# Altium schematic symbol library UM-64NNP.SchLib: 9 symbols
Pins are listed as number, name and electrical type; pins without a type are passive.

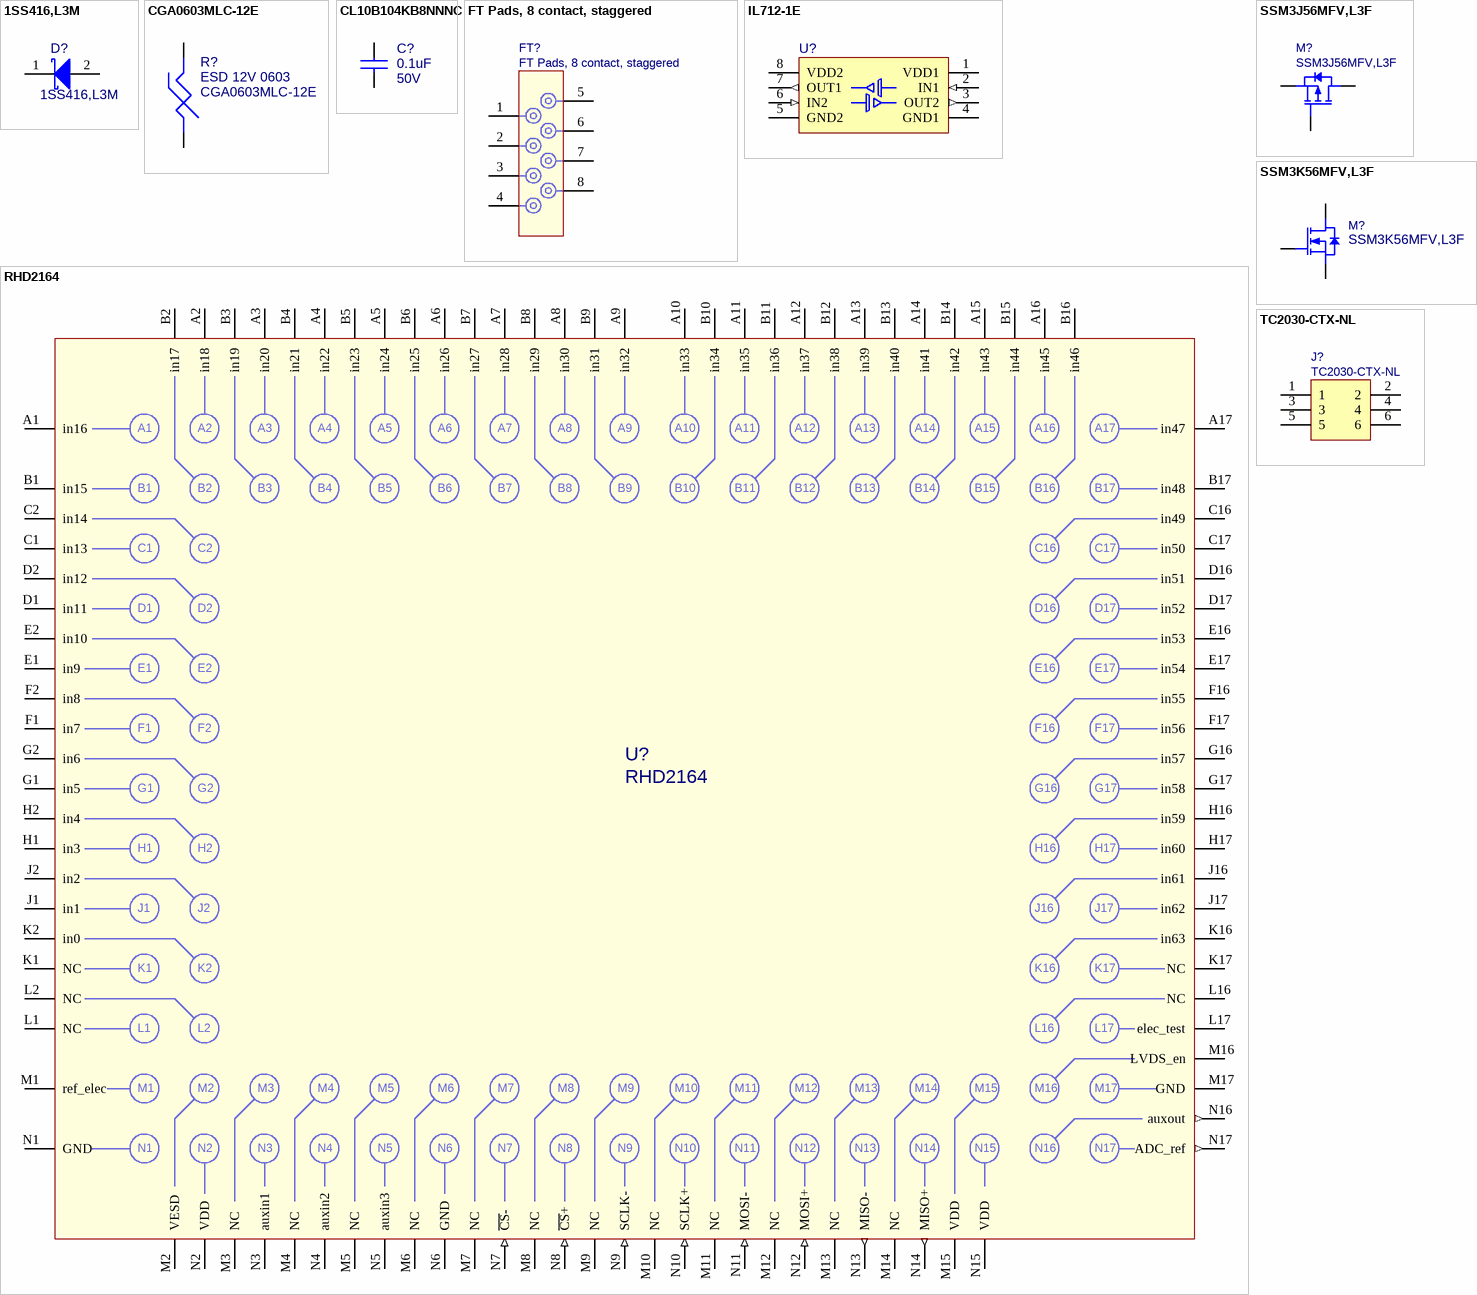
[diagram p0: symbols 1SS416,L3M to TC2030-CTX-NL]

## 1SS416,L3M
designator D?
Diode, Schottky, 30V, 100mA, SOD-923; Manufacturer: Toshiba; Category: Diode; Rating: 100mA; Supplier 1: Mouser; Supplier Part Number 1: 757-1SS416L3M; Package: SOD-923; Manufacturer PN: 1SS416,L3M
footprint TOSHIBA_SOD-923 (SODFL, 2-Leads, Body 0.60x1.00mm, IPC High Density)
pins: 1 C, 2 A

## CGA0603MLC-12E
designator R?, comment ESD 12V 0603  Manufacturer PN: CGA0603MLC-12E
ESD Suppressor, 12V, 0603; Manufacturer: Bourns; Package: 0603; Supplier 1: Mouser; Supplier Part Number 1: 652-CGA0603MLC-12E; Value: 12V; Category: ESD
footprint RES0603_L (Chip Resistor, Body 1.6x0.8mm, IPC High Density)
pins: 1 P, 2 P

## CL10B104KB8NNNC
designator C?, comment 0.1uF  Rating: 50V
Capacitor, Ceramic, 0.1uF, X7R, 50V, 10%, 0603; Manufacturer: Samsung; Manufacturer PN: CL10B104KB8NNNC; Category: Capacitor; Package: 0603; Supplier 1: Digi-Key; Supplier 2: Mouser; Supplier Part Number 2: 187-CL10B104KB8NNNC; Supplier Part Number 1: 1276-1000-1-ND
footprint CAP0603_L (Chip Capacitor, Body 1.6x0.8mm, Height 1.0mm, IPC High Density)
footprint CAP0603_REDUCED (Chip Capacitor, Body 1.6x0.8mm, Height 1.0mm, IPC High Density)
signal-integrity model Cap
simulation model Cap
pins: 1, 2

## FT Pads, 8 contact, staggered
designator FT?  (no BOM)
Feedthrough Pads, 8 contact, staggered; Category: TH; Package: TH
footprint FEEDTHRU_15MIL_8P_CAST_EXT (Feedthrough, 8 pin)
pins: 1, 2, 3, 4, 5, 6, 7, 8

## IL712-1E
designator U?, comment ISO DIG 3-5.5V uSOP8  (value not drawn)
Isolator, Digital, 3-5.5V, uSOP8; Manufacturer: NVE; Manufacturer PN: IL 712-1ETR7; Package: uSOP8; Supplier 1: Digi-Key; Supplier Part Number 1: 390-IL712-1ETR7CT-ND; Category: IC
footprint NVE_USOP8 (8-Lead uSOP 3mm x 3 mm package)
pins: 1 VDD1 (power) "Connection to load/battery", 2 IN1 (in) "Output current, proportional to Vin-Vload", 3 OUT2 (out), 4 GND1 (power), 5 GND2 (power), 6 IN2 (in), 7 OUT1 (out), 8 VDD2 (power)

## RHD2164
designator U?
Digital Electrophysiology Interface Chip, BGA-104; Manufacturer: Intan Technologies; Category: IC; Manufacturer PN: RHD2164; Package: BGA-104
footprint INTAN_RHD2164 (BGA104_9X7, 0.5MM pitch)
pins: A1 in16, A2 in18, A3 in20, A4 in22, A5 in24, A6 in26, A7 in28, A8 in30, A9 in32, A10 in33, A11 in35, A12 in37, A13 in39, A14 in41, A15 in43, A16 in45, A17 in47, B1 in15, B2 in17, B3 in19, B4 in21, B5 in23, B6 in25, B7 in27, B8 in29, B9 in31, B10 in34, B11 in36, B12 in38, B13 in40, B14 in42, B15 in44, B16 in46, B17 in48, C1 in13, C2 in14, C16 in49, C17 in50, D1 in11, D2 in12, D16 in51, D17 in52, E1 in9, E2 in10, E16 in53, E17 in54, F1 in7, F2 in8, F16 in55, F17 in56, G1 in5, G2 in6, G16 in57, G17 in58, H1 in3, H2 in4, H16 in59, H17 in60, J1 in1, J2 in2, J16 in61, J17 in62, K1 NC, K2 in0, K16 in63, K17 NC, L1 NC, L2 NC, L16 NC, L17 elec_test, M1 ref_elec, M2 VESD (power), M3 NC, M4 NC, M5 NC, M6 NC, M7 NC, M8 NC, M9 NC, M10 NC, M11 NC, M12 NC, M13 NC, M14 NC, M15 VDD (power), M16 LVDS_en, M17 GND (power), N1 GND (power), N2 VDD (power), N3 auxin1, N4 auxin2, N5 auxin3, N6 GND (power), N7 ~{CS}- (in), N8 ~{CS}+ (in), N9 SCLK- (in), N10 SCLK+ (in), N11 MOSI- (in), N12 MOSI+ (in), N13 MISO- (out), N14 MISO+ (out), N15 VDD (power), N16 auxout (out), N17 ADC_ref (out)

## SSM3J56MFV,L3F
designator M?
MOSFET, P-channel, -20V, 800mA, SOT723; Manufacturer: Toshiba; Category: Transistor; Length (mm): TBD; Rating: -20V; Thickness (mm): TBD; Width (mm): TBD; Manufacturer PN: SSM3J56MFV,L3F; Value: SSM3J56MFV,L3F
footprint TOSHIBA_VESM_SOT23FL (SOTFL, 3-Leads, Body 1.20x1.20mm, Pitch 0.40mm, IPC High Density)
pins: 1 G, 2 S, 3 D

## SSM3K56MFV,L3F
designator M?
MOSFET, N-channel, 20V, 800mA, SOT723; Manufacturer: Toshiba; Rating: -20V; Category: Transistor; Length (mm): TBD; Thickness (mm): TBD; Width (mm): TBD; Value: SSM3K56MFV,L3F; Manufacturer PN: SSM3K56MFV,L3F
footprint TOSHIBA_VESM_SOT23FL (SOTFL, 3-Leads, Body 1.20x1.20mm, Pitch 0.40mm, IPC High Density)
pins: 1 G, 2 S, 3 D

## TC2030-CTX-NL
designator J?  (no BOM)
SWD Connector, Zero Height; Manufacturer_Name: Tag Connect; Datasheet Link: http://www.tag-connect.com/Materials/TC2030-CTX.pdf; Height: 18mm; Manufacturer_Part_Number: TC2030-CTX-NL
footprint TC2030-IDC-NL (Tag-Connect 6-Pin with No Legs)
pins: 1, 2, 3, 4, 5, 6